# Altium footprint library RS_inductors.PcbLib: 8 footprints
Each footprint in its own frame and in the unit in brackets; x right, y up, seen from the top. Pads: shape width x height; smd on the part's side, far side on the other; paste and mask are expansions set on the pad; w line width, h text height; cw(c..) or ccw(c..) is an arc to the next point about the centre after c.
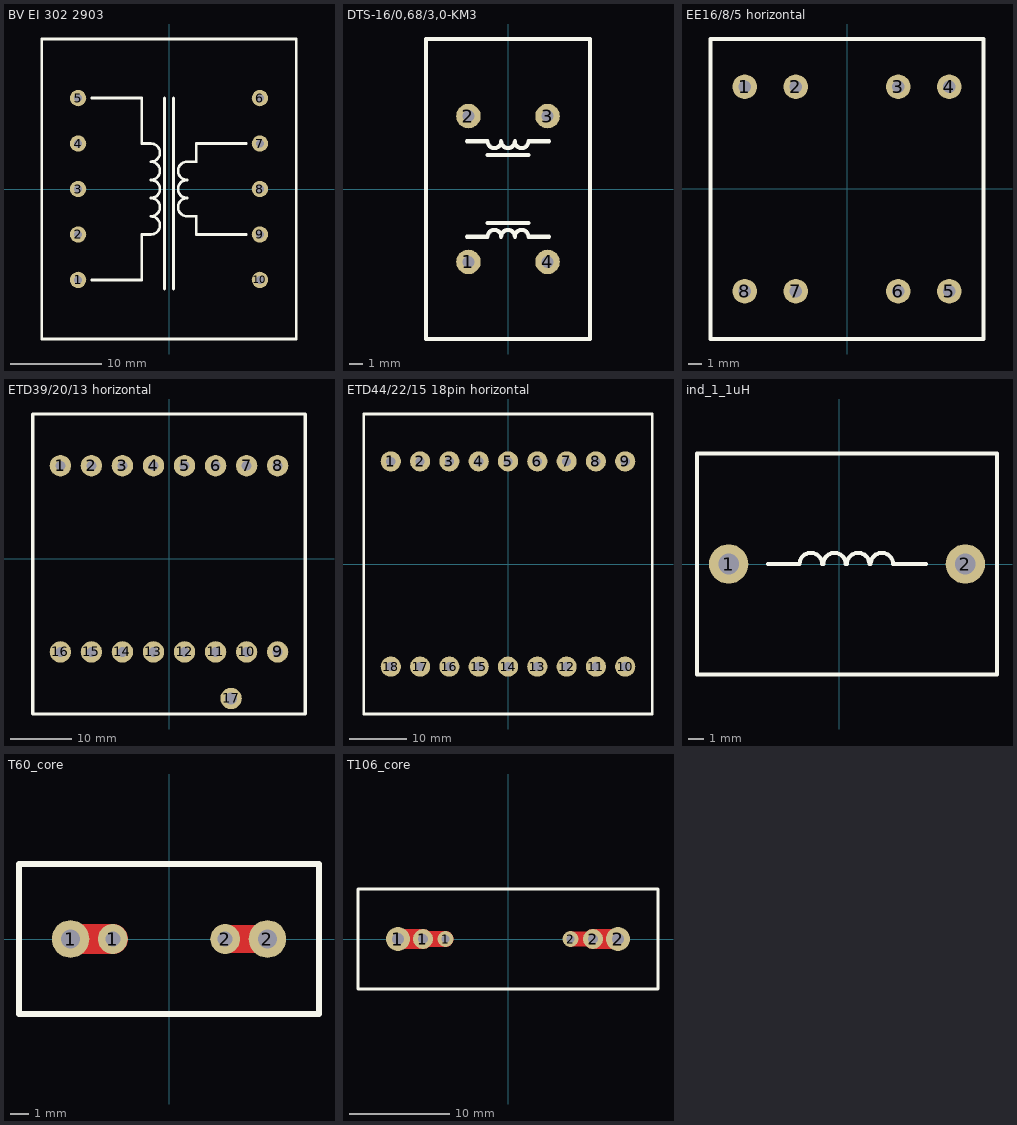
[diagram p0: the footprints below, top view; thin cyan lines are the x and y axes]

## BV EI 302 2903 [mm] "PCB mains voltage transformer"
pads (10):
  round 1.8 hole 0.9: 1(-10,-10) 2(-10,-5) 3(-10,0) 4(-10,5) 5(-10,10) 6(10,10) 7(10,5) 8(10,0) 9(10,-5) 10(10,-10)
Top Overlay:
  lines w0.3: -8.5,-10 -3,-10 -3,-5 -2,-5 ccw(c-2,-4) -2,-3 ccw(c-2,-2) -2,-1 ccw(c-2,0) -2,1 ccw(c-2,2) -2,3 ccw(c-2,4) -2,5 -3,5 -3,10 -8.5,10 ; -0.5,-11 -0.5,10 ; 0.5,-11 0.5,10 ; 8.5,-5 3,-5 3,-3 ; 8.5,5 3,5 3,3 ; 3,-3 3,-3 ; 3,-3 2,-3 cw(c2,-2) 2,-1 cw(c2,0) 2,1 cw(c2,2) 2,3 3,3 ; 3,3 3,3 ; -14,-16.5 -14,16.5 14,16.5 14,-16.5 -14,-16.5
3D body: height 22, standoff 0, extent -14,-16.5 14,16.5

## DTS-16/0,68/3,0-KM3 [mm] "Common mode choke"
pads (4):
  round 1.8 hole 0.9: 1(-2.9,-5.35) 2(-2.9,5.35) 3(2.9,5.35) 4(2.9,-5.35)
Top Overlay:
  lines w0.3: -3,-3.5 -1.5,-3.5 cw(c-1,-3.5) -0.5,-3.5 cw(c0,-3.5) 0.5,-3.5 cw(c1,-3.5) 1.5,-3.5 3,-3.5 ; -3,3.5 -1.5,3.5 ccw(c-1,3.5) -0.5,3.5 ccw(c0,3.5) 0.5,3.5 ccw(c1,3.5) 1.5,3.5 3,3.5 ; -1.5,-2.5 1.5,-2.5 ; -1.5,2.5 1.5,2.5 ; -6,-11 6,-11 6,11 -6,11 -6,-11

## EE16/8/5 horizontal [mm] "Feryster EF16-K-H-8P-T1618"
pads (8):
  round 1.8 hole 0.9: 1(-7.5,7.5) 2(-3.75,7.5) 3(3.75,7.5) 4(7.5,7.5) 5(7.5,-7.5) 6(3.75,-7.5) 7(-3.75,-7.5) 8(-7.5,-7.5)
Top Overlay:
  lines w0.3: -10,-11 10,-11 10,11 -10,11 -10,-11

## ETD39/20/13 horizontal [mm] "Ferroxcube  CPH-ETD39-1S-16P-C"
pads (17):
  round 3.5 hole 1.6: 1(-17.78,15.24) 2(-12.7,15.24) 3(-7.62,15.24) 4(-2.54,15.24) 5(2.54,15.24) 6(7.62,15.24) 7(12.7,15.24) 8(17.78,15.24) 9(17.78,-15.24) 10(12.7,-15.24) 11(7.62,-15.24) 12(2.54,-15.24) 13(-2.54,-15.24) 14(-7.62,-15.24) 15(-12.7,-15.24) 16(-17.78,-15.24)
  round 3.5 hole 2: 17(10.16,-22.86)
Top Overlay:
  lines w0.5: -22.3,-25.4 -22.3,23.7 22.3,23.7 22.3,-25.4 -22.3,-25.4
3D body: height 0.25, standoff 0, extent 6,0 6,0

## ETD44/22/15 18pin horizontal [mm]
pads (18):
  round 3.5 hole 1.6: 1(-20.32,17.78) 2(-15.24,17.78) 3(-10.16,17.78) 4(-5.08,17.78) 5(0,17.78) 6(5.08,17.78) 7(10.16,17.78) 8(15.24,17.78) 9(20.32,17.78) 10(20.32,-17.78) 11(15.24,-17.78) 12(10.16,-17.78) 13(5.08,-17.78) 14(0,-17.78) 15(-5.08,-17.78) 16(-10.16,-17.78) 17(-15.24,-17.78) 18(-20.32,-17.78)
Top Overlay:
  lines w0.5: -25,-26 25,-26 25,26 0,26 -25,26 -25,-26
3D body "B66366B1018T001_coil_former_etd44.stp": height 38.33, standoff -4.25, extent -24.8,-25.5 24.8,25.5
3D body: height 0.25, standoff 0, extent 6,0 6,0

## ind_1_1uH [mm]
pads (2):
  round 2.5 hole 1.3: 1(-7,0) 2(8,0)
Top Overlay:
  lines w0.254: -4.5,0 -2.5,0 cw(c-1.793,0) -1.086,0 ; -1,0 cw(c-0.293,0) 0.414,0 ; 0.5,0 cw(c1.207,0) 1.914,0 ; 2,0 cw(c2.707,0) 3.414,0 5.5,0 ; -9,-7 10,-7 10,6 10,7 -9,7 -9,-7

## T60_core [mm] "Micrometals T60-26 core footprint"
pads (4):
  round 2 hole 1: 1(-5.25,0) 2(5.25,0)
  round 1.6 hole 0.8: 1(-3,0) 2(3,0)
Top Layer:
  lines w1.5: 3,0 5.25,0
  lines w1.6: -5.25,0 -3,0
Top Overlay:
  lines w0.3: -8,-4 -8,4 8,4 8,-4 -8,-4
Top Solder:
  lines w1.6: -5.25,0 -3,0 ; 3,0 5.25,0

## T106_core [mm] "Micrometals T106-26 core footprint"
pads (6):
  round 2.4 hole 1.2: 1(-11,0) 2(11,0)
  round 2 hole 1: 1(-8.5,0) 2(8.5,0)
  round 1.6 hole 0.8: 1(-6.25,0) 2(6.25,0)
Top Layer:
  lines w1.5: 6.25,0 8.5,0
  lines w1.6: -8.5,0 -6.25,0
  lines w2: -11,0 -8.5,0 ; 8.5,0 11,0
Top Overlay:
  lines w0.3: -15,-5 15,-5 15,5 -15,5 -15,-5
Top Solder:
  lines w1.6: -8.5,0 -6.25,0 ; 6.25,0 8.5,0
  lines w2: -11,0 -8.5,0 ; 8.5,0 11,0